# EAGLE library part CY62158 (library ML497A)
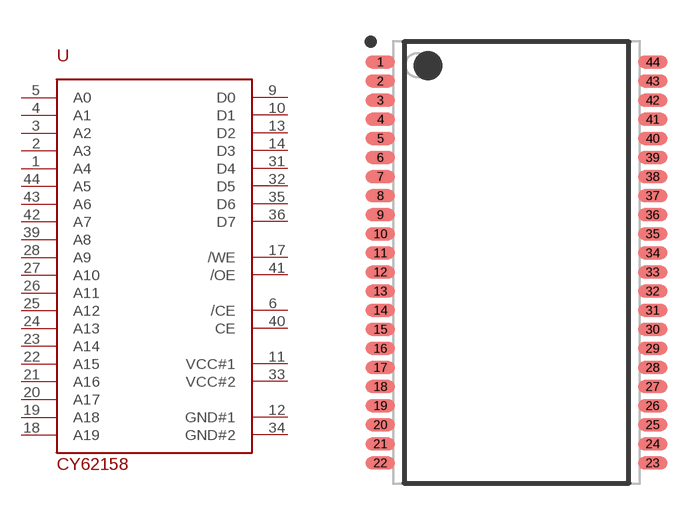
[diagram p5: symbol with the pads of TSOP44-II; footprint TSOP44-II]

Designator prefix -

## CY62158  [TSOP44-II]
1  A4
2  A3
3  A2
4  A1  out
5  A0  in
6  /CE
9  D0
10  D1
11  VCC#1
12  GND#1
13  D2
14  D3
17  /WE
18  A19
19  A18
20  A17
21  A16
22  A15
23  A14
24  A13
25  A12
26  A11
27  A10
28  A9
31  D4
32  D5
33  VCC#2
34  GND#2
35  D6
36  D7
39  A8
40  CE
41  /OE
42  A7
43  A6
44  A5

## Footprint TSOP44-II (pad centres in mm)
smd 1.25 x 0.55: 1 -5.7,8.4; 2 -5.7,7.6; 3 -5.7,6.8; 4 -5.7,6; 5 -5.7,5.2; 6 -5.7,4.4; 7 -5.7,3.6; 8 -5.7,2.8; 9 -5.7,2; 10 -5.7,1.2; 11 -5.7,0.4; 12 -5.7,-0.4; 13 -5.7,-1.2; 14 -5.7,-2; 15 -5.7,-2.8; 16 -5.7,-3.6; 17 -5.7,-4.4; 18 -5.7,-5.2; 19 -5.7,-6; 20 -5.7,-6.8; 21 -5.7,-7.6; 22 -5.7,-8.4; 23 5.7,-8.4; 24 5.7,-7.6; 25 5.7,-6.8; 26 5.7,-6; 27 5.7,-5.2; 28 5.7,-4.4; 29 5.7,-3.6; 30 5.7,-2.8; 31 5.7,-2; 32 5.7,-1.2; 33 5.7,-0.4; 34 5.7,0.4; 35 5.7,1.2; 36 5.7,2; 37 5.7,2.8; 38 5.7,3.6; 39 5.7,4.4; 40 5.7,5.2; 41 5.7,6; 42 5.7,6.8; 43 5.7,7.6; 44 5.7,8.4